# Altium footprint library PcbLib_Acura.PcbLib: 154 footprints (part 8 of 10)
Each footprint in its own frame and in the unit in brackets; x right, y up, seen from the top. Pads: shape width x height; smd on the part's side, far side on the other; paste and mask are expansions set on the pad; w line width, h text height; cw(c..) or ccw(c..) is an arc to the next point about the centre after c.
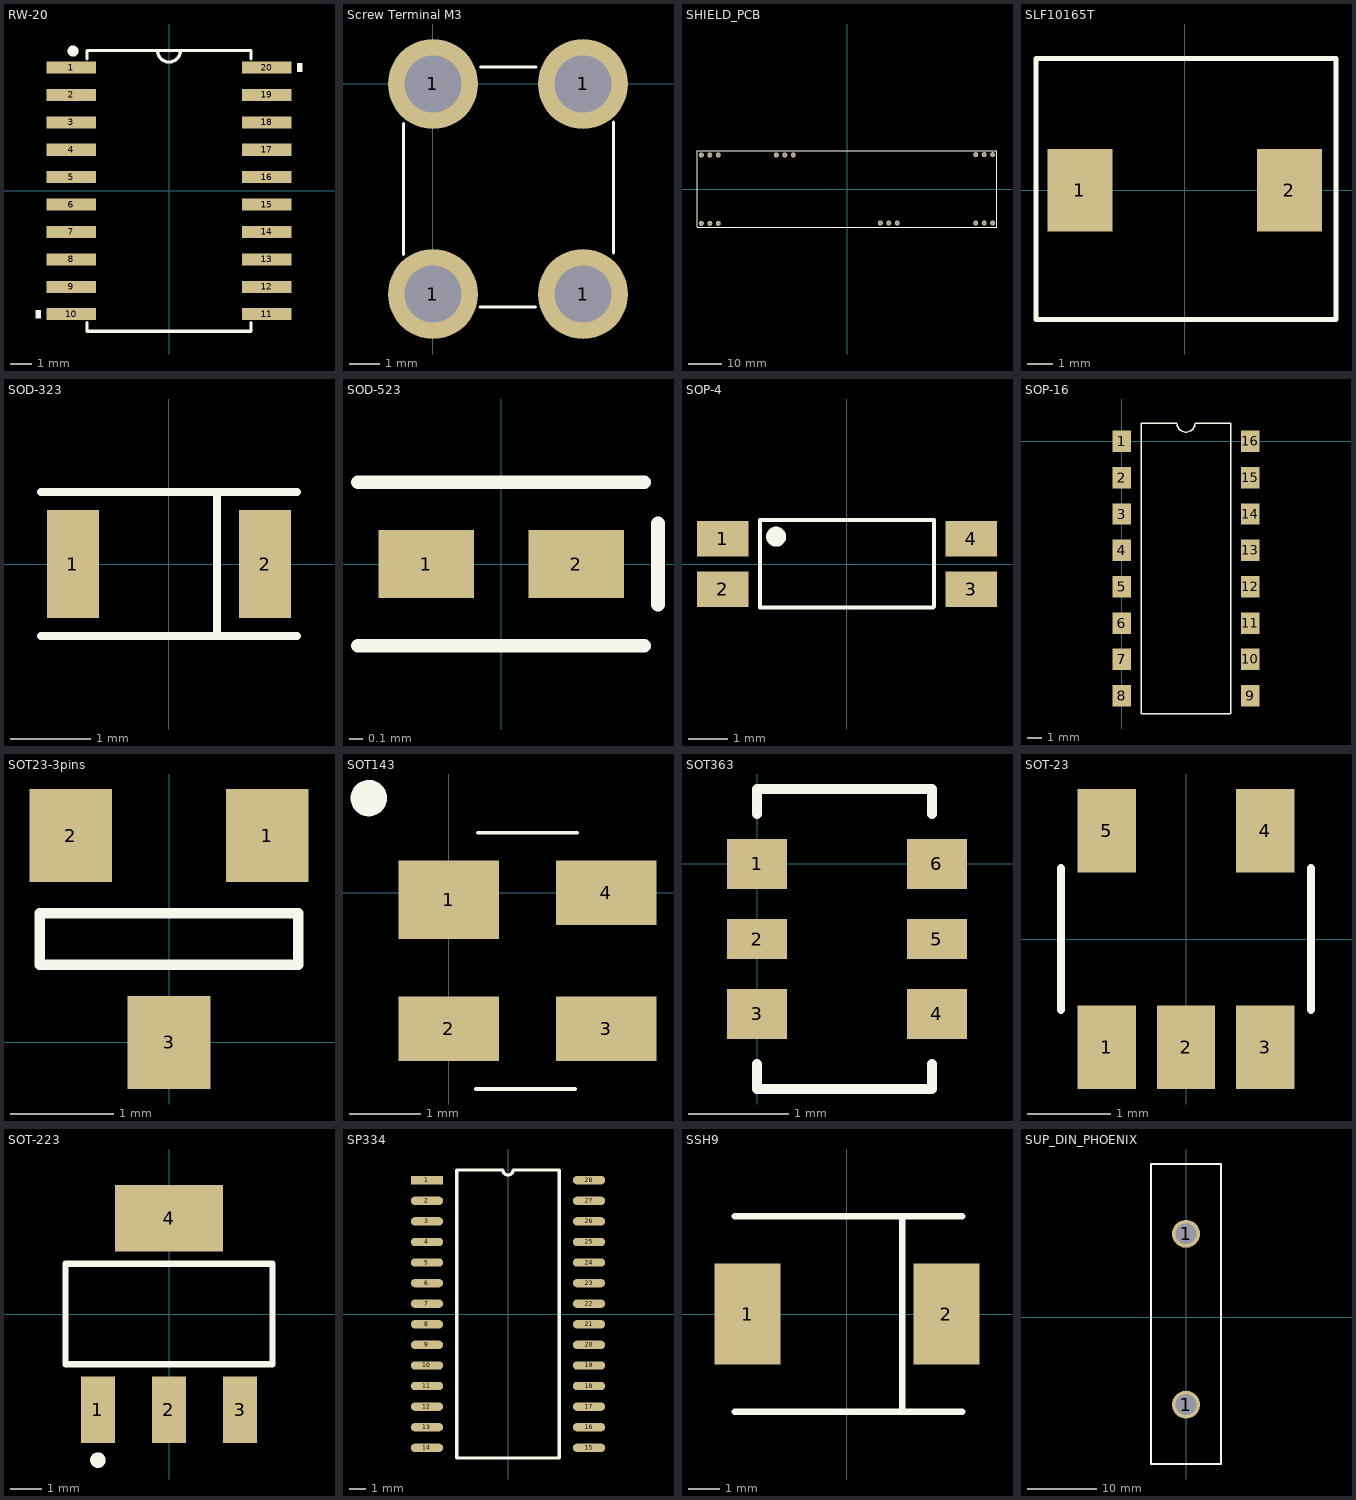
[diagram p7: the footprints below, top view; thin cyan lines are the x and y axes]

## RW-20 [mil] "For ADM3251E"
pads (20):
  rect 90.5x22 smd: 1(-178.25,225) 2(-178.25,175) 3(-178.25,125) 4(-178.25,75) 5(-178.25,25) 6(-178.25,-25) 7(-178.25,-75) 8(-178.25,-125) 9(-178.25,-175) 10(-178.25,-225) 11(178.25,-225) 12(178.25,-175) 13(178.25,-125) 14(178.25,-75) 15(178.25,-25) 16(178.25,25) 17(178.25,75) 18(178.25,125) 19(178.25,175) 20(178.25,225)
Top Overlay:
  circle w10: c-175,255 r5
  region: -233.5,-217.5 -243.5,-217.5 -243.5,-232.5 -233.5,-232.5
  region: 233.5,232.5 243.5,232.5 243.5,217.5 233.5,217.5
  lines w6: -149.5,-240.5 -149.5,-256 149.5,-256 149.5,-240.5 ; -149.5,240.5 -149.5,256 149.5,256 149.5,240.5 ; -21,256 ccw(c0,256) 21,256

## Screw Terminal M3 [mm] "TERM PCB SNAP-IN VERT M3 THREAD"
pads (4):
  round 3 hole 1.9: 1(0,-7) 1(0,0) 1(5,-7) 1(5,0)
Top Overlay:
  lines w0.1: -0.99,-5.69 -0.99,-1.32 ; 1.57,-7.43 3.42,-7.43 ; 1.58,0.57 3.43,0.57 ; 6.02,-5.63 6.02,-1.26

## SHIELD_PCB [mm]
pads (18):
  round 1.5 hole 0.9: 1(-43.7,-10.3) 1(-43.7,10.2) 1(-41.16,-10.3) 1(-41.16,10.2) 1(-38.62,-10.3) 1(-38.62,10.2) 1(-21.2,10.2) 1(-18.66,10.2) 1(-16.12,10.2) 1(10,-10.22) 1(12.54,-10.22) 1(15.08,-10.22) 1(38.62,-10.2) 1(38.62,10.3) 1(41.16,-10.2) 1(41.16,10.3) 1(43.7,-10.2) 1(43.7,10.3)
Top Overlay:
  lines w0.1: -45,-11.5 45,-11.5 45,11.5 -45,11.5 -45,-11.5

## SLF10165T [mm]
pads (2):
  rect 2.5x3.2 smd: 1(-4.05,0) 2(4.05,0)
Top Overlay:
  lines w0.2: -5.75,-5 -5.75,5.1 4.35,5.1 5.85,5.1 5.85,-5 4.35,-5 -5.75,-5

## SOD-323 [mm]
pads (2):
  rect 0.65x1.35 smd: 1(-1.2,0) 2(1.2,0)
Top Overlay:
  lines w0.1: -1.6,-0.9 1.6,-0.9 ; -1.6,0.9 1.6,0.9 ; 0.6,-0.9 0.6,0.9

## SOD-523 [mm]
pads (2):
  rect 0.7x0.5 smd: 1(-0.55,0) 2(0.55,0)
Top Overlay:
  lines w0.1: -1.05,-0.6 1.05,-0.6 ; -1.05,0.6 1.05,0.6 ; 1.15,-0.3 1.15,0.3

## SOP-4 [mm]
pads (4):
  rect 1.3x0.9 smd: 1(-3.15,0.635) 2(-3.15,-0.635) 3(3.15,-0.635) 4(3.15,0.635)
Top Overlay:
  circle w0.254: c-1.795,0.692 r0.127
  lines w0.1: 2.18,-1.099 -2.2,-1.099 -2.2,1.115 2.2,1.115 2.2,-1.08

## SOP-16 [mm]
pads (16):
  rect 1.3x1.5 smd: 1(0,0) 2(0,-2.54) 3(0,-5.08) 4(0,-7.62) 5(0,-10.16) 6(0,-12.7) 7(0,-15.24) 8(0,-17.78) 9(9,-17.78) 10(9,-15.24) 11(9,-12.7) 12(9,-10.16) 13(9,-7.62) 14(9,-5.08) 15(9,-2.54) 16(9,0)
Top Overlay:
  lines w0.1: 1.385,-19.05 7.615,-19.05 7.615,1.27 5.135,1.27 cw(c4.5,1.27) 3.865,1.27 1.385,1.27 1.385,-19.05

## SOT23-3pins [mm]
pads (3):
  rect 0.8x0.9 smd: 1(0.95,2) 2(-0.95,2) 3(0,0)
Top Overlay:
  lines w0.1: -1.25,0.75 -1.25,1.25 1.25,1.25 1.25,0.75 -1.25,0.75

## SOT143 [mm]
pads (4):
  rect 1.4x1.1 smd: 1(0,-0.1)
  rect 1.4x0.9 smd: 2(0,-1.9) 3(2.2,-1.9) 4(2.2,0)
Top Overlay:
  circle w0.254: c-1.118,1.321 r0.127
  lines w0.05: 0.381,-2.743 1.766,-2.743 ; 0.406,0.838 1.791,0.838

## SOT363 [mm]
pads (6):
  rect 0.6x0.5 smd: 1(0,0) 3(0,-1.5) 4(1.8,-1.5) 6(1.8,0)
  rect 0.6x0.4 smd: 2(0,-0.75) 5(1.8,-0.75)
Top Overlay:
  lines w0.1: 0,-2 0,-2.25 1.75,-2.25 1.75,-2 ; 0,0.5 0,0.75 1.75,0.75 1.75,0.5

## SOT-23 [mm]
pads (5):
  rect 0.7x1 smd: 1(-0.95,-1.3) 2(0,-1.3) 3(0.95,-1.3) 4(0.95,1.3) 5(-0.95,1.3)
Top Overlay:
  lines w0.1: -1.5,-0.85 -1.5,0.85 ; 1.5,-0.85 1.5,0.85

## SOT-223 [mm]
pads (4):
  rect 1.1x2.15 smd: 1(-2.3,-3.1) 2(0,-3.1) 3(2.3,-3.1)
  rect 3.5x2.15 smd: 4(0,3.1)
Top Overlay:
  circle w0.25: c-2.3,-4.725 r0.125
  lines w0.2: -3.35,-1.625 -3.35,1.625 3.35,1.625 3.35,-1.625 -3.35,-1.625

## SP334 [mm]
pads (28):
  rect 2x0.51 smd: 1(-5,8.255)
  oval 2x0.51 smd: 2(-5,6.985) 3(-5,5.715) 4(-5,4.445) 5(-5,3.175) 6(-5,1.905) 7(-5,0.635) 8(-5,-0.635) 9(-5,-1.905) 10(-5,-3.175) 11(-5,-4.445) 12(-5,-5.715) 13(-5,-6.985) 14(-5,-8.255) 15(5,-8.255) 16(5,-6.985) 17(5,-5.715) 18(5,-4.445) 19(5,-3.175) 20(5,-1.905) 21(5,-0.635) 22(5,0.635) 23(5,1.905) 24(5,3.175) 25(5,4.445) 26(5,5.715) 27(5,6.985) 28(5,8.255)
Top Overlay:
  lines w0.2: -3.165,-8.89 -3.165,8.89 -0.318,8.89 ccw(c0,8.89) 0.318,8.89 3.165,8.89 3.165,-8.89 -3.165,-8.89

## SSH9 [mm]
pads (2):
  rect 2.1x3.2 smd: 1(-3.15,0) 2(3.15,0)
Top Overlay:
  lines w0.2: -3.55,-3.1 3.65,-3.1 ; -3.55,3.1 3.65,3.1 ; 1.75,-3.1 1.75,3.1

## SUP_DIN_PHOENIX [mm]
pads (2):
  round 4 hole 3: 1(0,-12.5) 1(0,12)
Top Overlay:
  lines w0.254: -5,-21 -5,22 5,22 5,-21 -5,-21